# EAGLE library part TCA8418 (library GTA04b7)
I2C-Keypad controller
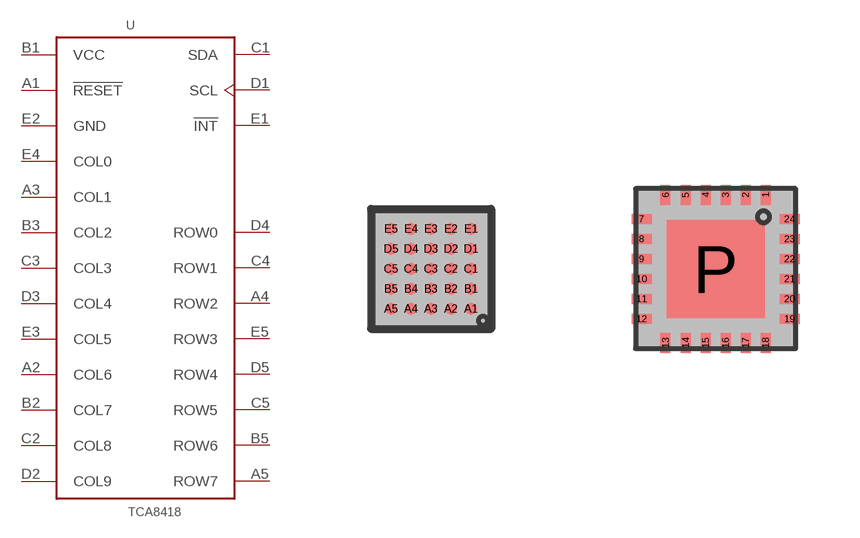
[diagram p41: symbol with the pads of PBGA25-N25-0.5; footprints PBGA25-N25-0.5, LPCC-24]

Designator prefix -

## TCA8418EYFP  [PBGA25-N25-0.5]
A1  !RESET  in
A2  COL6
A3  COL1
A4  ROW2
A5  ROW7
B1  VCC  pwr
B2  COL7
B3  COL2
B5  ROW6
C1  SDA
C2  COL8
C3  COL3
C4  ROW1
C5  ROW5
D1  SCL  in
D2  COL9
D3  COL4
D4  ROW0
D5  ROW4
E1  !INT  oc
E2  GND  pwr
E3  COL5
E4  COL0
E5  ROW3

## TCA8418RTW  [LPCC-24]
1  ROW7
2  ROW6
3  ROW5
4  ROW4
5  ROW3
6  ROW2
7  ROW1
8  ROW0
9  COL0
10  COL1
11  COL2
12  COL3
13  COL4
14  COL5
15  COL6
16  COL7
17  COL8
18  COL9
19  GND  pwr
20  !RESET  in
21  VCC  pwr
22  SDA
23  SCL  in
24  !INT  oc

## Footprint PBGA25-N25-0.5 (pad centres in mm)
VFBGA 25 pins 0.5 pitch
smd 0.3 x 0.3: A1 1,-1; A2 0.5,-1; A3 0,-1; A4 -0.5,-1; A5 -1,-1; B1 1,-0.5; B2 0.5,-0.5; B3 0,-0.5; B4 -0.5,-0.5; B5 -1,-0.5; C1 1,0; C2 0.5,0; C3 0,0; C4 -0.5,0; C5 -1,0; D1 1,0.5; D2 0.5,0.5; D3 0,0.5; D4 -0.5,0.5; D5 -1,0.5; E1 1,1; E2 0.5,1; E3 0,1; E4 -0.5,1; E5 -1,1

## Footprint LPCC-24 (pad centres in mm)
PWQFN-24: 4x4mm 0.5 pitch 24 pads
smd 0.25 x 0.5: 1 1.25,1.85; 2 0.75,1.85; 3 0.25,1.85; 4 -0.25,1.85; 5 -0.75,1.85; 6 -1.25,1.85; 13 -1.25,-1.85; 14 -0.75,-1.85; 15 -0.25,-1.85; 16 0.25,-1.85; 17 0.75,-1.85; 18 1.25,-1.85
smd 0.5 x 0.25: 7 -1.85,1.25; 8 -1.85,0.75; 9 -1.85,0.25; 10 -1.85,-0.25; 11 -1.85,-0.75; 12 -1.85,-1.25; 19 1.85,-1.25; 20 1.85,-0.75; 21 1.85,-0.25; 22 1.85,0.25; 23 1.85,0.75; 24 1.85,1.25
smd 2.45 x 2.45: P 0,0